# Altium integrated library RC0402FR-0727RL.IntLib: 1 symbol
Pins are listed as number, name and electrical type; pins without a type are passive.

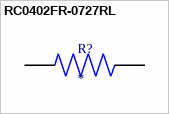
[diagram p0: symbol RC0402FR-0727RL]

## RC0402FR-0727RL
designator R?
27 Ohms Â±1% 0.063W, 1/16W Chip Resistor 0402 (1005 Metric) Moisture Resistant Thick Film; MF: Yageo; MP: RC0402FR-0727RL; SnapEDA_Link: https://www.snapeda.com/parts/RC0402FR-0727RL/Yageo/view-part/?ref=snap; Package: 1005 Panasonic Electronic Components; Value: *; Check_prices: https://www.snapeda.com/parts/RC0402FR-0727RL/Yageo/view-part/?ref=eda
footprint RESC1005X40N
pins: 1, 2